# Altium footprint library SoporokoHost.PcbLib: 21 footprints (part 1 of 2)
Each footprint in its own frame and in the unit in brackets; x right, y up, seen from the top. Pads: shape width x height; smd on the part's side, far side on the other; paste and mask are expansions set on the pad; w line width, h text height; cw(c..) or ccw(c..) is an arc to the next point about the centre after c.
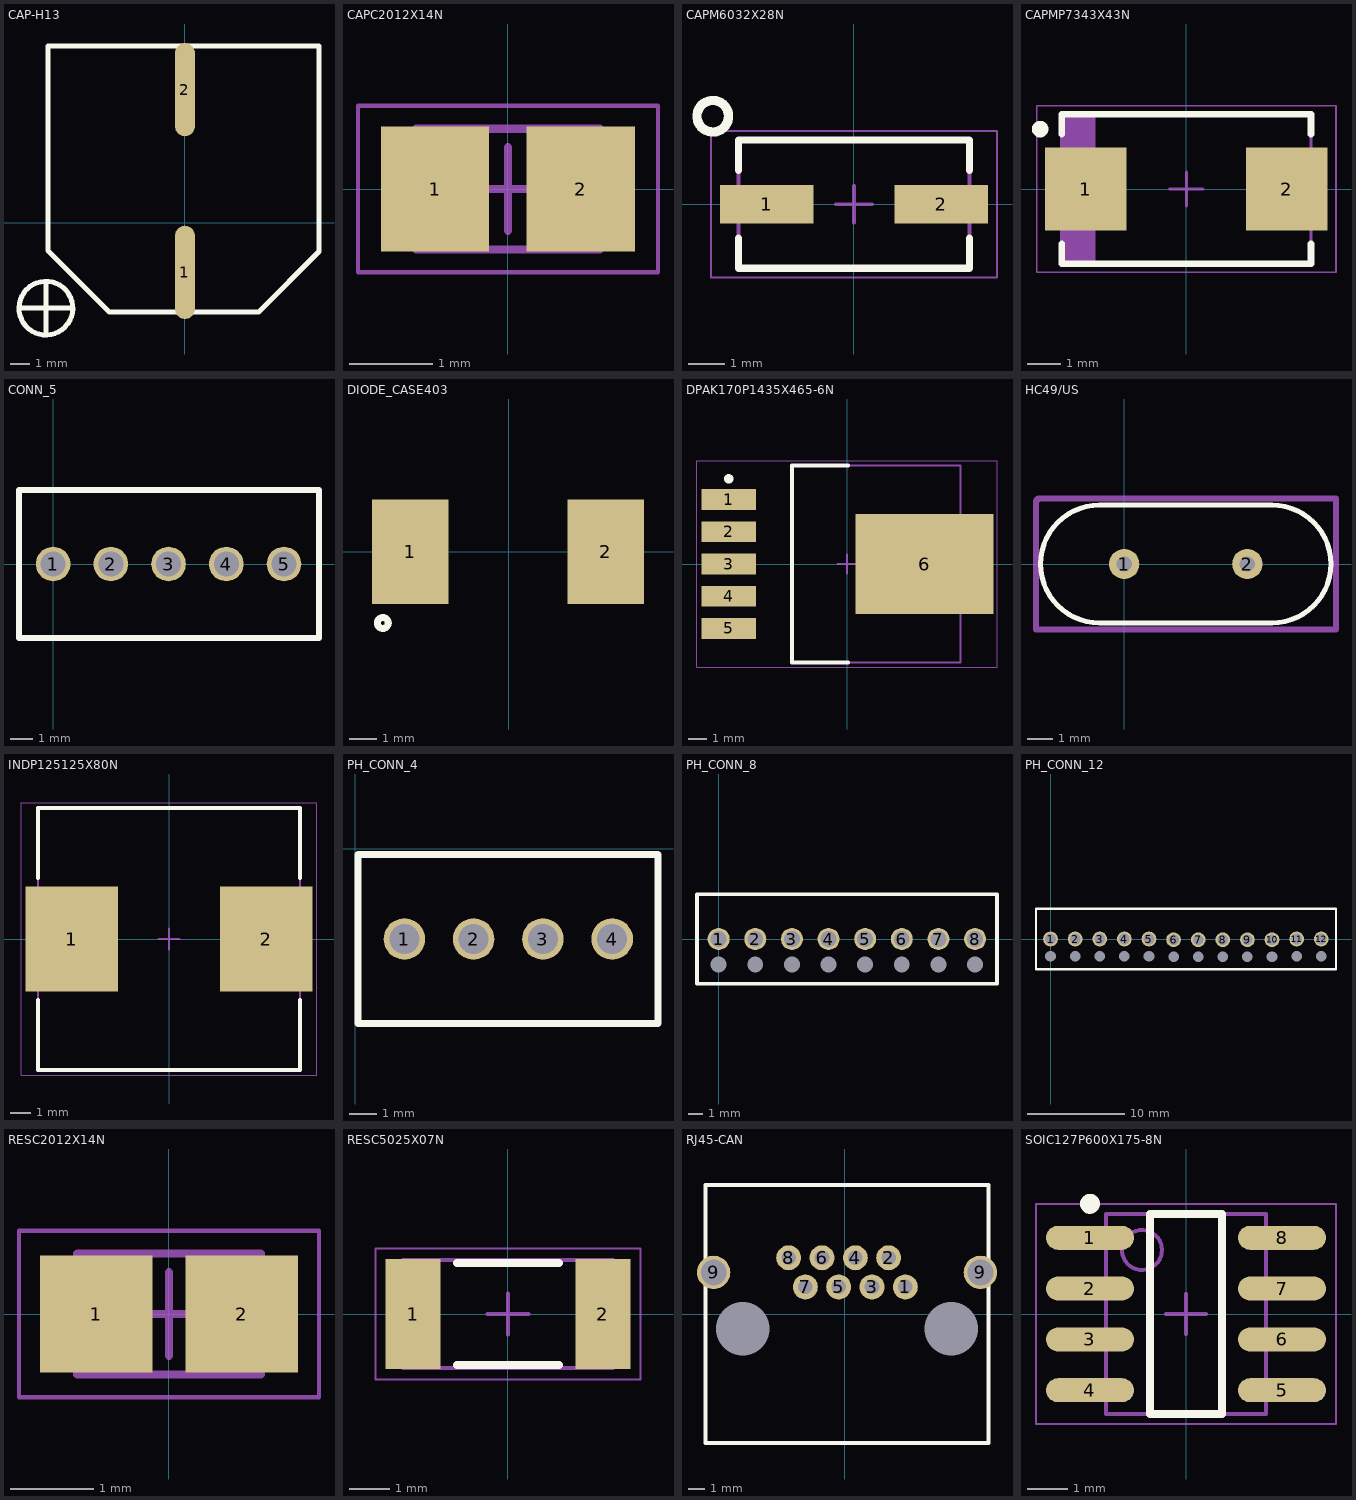
[diagram p0: the footprints below, top view; thin cyan lines are the x and y axes]

## CAP-H13 [mm]
pads (2):
  oval 1x4.7 smd: 1(0,-2.5) 2(0,6.7)
Top Overlay:
  lines w0.254: -8.3,-4.3 -5.7,-4.3 ; -7,-5.6 -7,-3 ; -5.647,-4.338 cw(c-7,-4.3) -5.647,-4.332 ; 6.725,8.9 -6.9,8.9 -6.9,-1.4 -3.8,-4.5 3.7,-4.5 6.75,-1.45 6.75,8.9

## CAPC2012X14N [mm] "Chip Capacitor, 2-Leads, Body 2.00x1.25mm, IPC Medium Density"
height 1.4
pads (2):
  rect 1.3x1.5 smd: 1(-0.875,0) 2(0.875,0)
Mechanical 13:
  lines w0.1: -1.1,-0.725 -1.1,0.725 1.1,0.725 1.1,-0.725 -1.1,-0.725
Mechanical 15:
  lines w0.05: -1.8,-1 -1.8,1 1.8,1 1.8,-1 -1.8,-1
  lines w0.1: -0.5,0 0.5,0 ; 0,-0.5 0,0.5
3D body: height 1.4, standoff 0, extent -0.6,-0.725 0.6,0.725
3D body: height 1.4, standoff 0, extent -1.1,-0.725 -0.6,0.725
3D body: height 1.4, standoff 0, extent 0.6,-0.725 1.1,0.725

## CAPM6032X28N [mm] "Molded Capacitor, 2-Leads, Body 6.00x3.20mm, IPC Medium Density"
height 2.8
pads (2):
  rect 2.55x1.05 smd: 1(-2.375,0) 2(2.375,0)
Top Overlay:
  circle w0.254: c-3.85,2.4 r0.43
  lines w0.2: -3.15,-0.925 -3.15,-1.75 3.15,-1.75 3.15,-0.925 ; -3.15,0.925 -3.15,1.75 3.15,1.75 3.15,0.925
Mechanical 13:
  lines w0.1: -3.15,-1.75 -3.15,1.75 3.15,1.75 3.15,-1.75 -3.15,-1.75
Mechanical 15:
  lines w0.05: -3.9,-2 -3.9,2 3.9,2 3.9,-2 -3.9,-2
  lines w0.1: -0.5,0 0.5,0 ; 0,-0.5 0,0.5
3D body: height 2.8, standoff 0, extent -3.15,-1.75 3.15,1.75

## CAPMP7343X43N [mm] "Molded Capacitor, 2-Leads, Body 7.30x4.30mm, IPC Medium Density"
height 4.3
pads (2):
  rect 2.45x2.5 smd: 1(-3.025,0) 2(3.025,0)
Top Overlay:
  circle w0.25: c-4.4,1.8 r0.125
  lines w0.2: -3.75,-1.65 -3.75,-2.25 3.75,-2.25 3.75,-1.65 ; -3.75,1.65 -3.75,2.25 3.75,2.25 3.75,1.65
Mechanical 13:
  rectangle: -3.75,-2.25 -2.741,2.25
  lines w0.1: -3.75,-2.25 -3.75,2.25 3.75,2.25 3.75,-2.25 -3.75,-2.25
Mechanical 15:
  lines w0.05: -4.5,-2.5 -4.5,2.5 4.5,2.5 4.5,-2.5 -4.5,-2.5
  lines w0.1: -0.5,0 0.5,0 ; 0,-0.5 0,0.5
3D body: height 4.3, standoff 0, extent -3.75,-2.25 3.75,2.25

## CONN_5 [mil]
pads (5):
  round 60 hole 43.31: 1(0,0) 2(100,0) 3(200,0) 4(300,0) 5(400,0)
Top Overlay:
  lines w10: -59.06,-127.95 -59.06,127.95 460.63,127.95 460.63,-127.95 -59.06,-127.95

## DIODE_CASE403 [mil]
height 94.88
pads (2):
  rect 110x150 smd: 1(-141.73,0) 2(139.25,0)
Top Overlay:
  circle w10: c-181.1,-102.36 r7.87

## DPAK170P1435X465-6N [mm] "D2-PAK, 6-Pads, Body 7.55x8.56mm (max), IPC Medium Density"
height 4.65
pads (6):
  rect 2.9x1.1 smd: 1(-6.25,3.4) 2(-6.25,1.7) 3(-6.25,0) 4(-6.25,-1.7) 5(-6.25,-3.4)
  rect 7.3x5.3 smd: 6(4.1,0)
Top Overlay:
  circle w0.25: c-6.25,4.5 r0.125
  lines w0.2: 0.05,-5.2 -2.9,-5.2 -2.9,5.2 0.05,5.2
Mechanical 13:
  lines w0.1: -2.9,-5.2 -2.9,5.2 5.99,5.2 5.99,-5.2 -2.9,-5.2
Mechanical 15:
  lines w0.05: -7.925,-5.45 -7.925,5.45 7.925,5.45 7.925,-5.45 -7.925,-5.45
  lines w0.1: -0.5,0 0.5,0 ; 0,-0.5 0,0.5
3D body: height 4.65, standoff 0.15, extent -2.9,-5.2 5.99,5.2

## HC49/US [mm]
pads (2):
  round 1.2 hole 0.6: 1(0,0) 2(4.88,0)
Top Overlay:
  lines w0.2: -0.985,-2.335 cw(c-0.985,0) -0.985,2.335 5.865,2.335 cw(c5.865,0) 5.865,-2.335 -0.985,-2.335
Mechanical 15:
  lines w0.254: -3.5,-2.6 8.4,-2.6 8.4,2.6 -3.4,2.6 -3.5,2.5 -3.5,-2.6

## INDP125125X80N [mm] "Precision Wire Wound Inductor, 2-Leads, Body 12.50x12.50mm, IPC Medium Density"
height 8
pads (2):
  rect 4.5x5.15 smd: 1(-4.75,0) 2(4.75,0)
Top Overlay:
  lines w0.2: -6.4,-2.975 -6.4,-6.4 6.4,-6.4 6.4,-2.975 ; -6.4,2.975 -6.4,6.4 6.4,6.4 6.4,2.975
Mechanical 13:
  lines w0.1: -6.4,-6.4 6.4,-6.4 6.4,6.4 -6.4,6.4 -6.4,-6.4
Mechanical 15:
  lines w0.05: -7.225,-6.65 7.225,-6.65 7.225,6.65 -7.225,6.65 -7.225,-6.65
  lines w0.1: -0.5,0 0.5,0 ; 0,-0.5 0,0.5
3D body: height 8, standoff 0, extent -6.4,-6.4 6.4,6.4

## PH_CONN_4 [mm]
pads (4):
  round 1.524 hole 1.1: 1(1.8,-3.3) 2(4.34,-3.3) 3(6.88,-3.3) 4(9.42,-3.3)
Top Overlay:
  lines w0.254: 0.1,-6.4 0.1,-0.2 11.1,-0.2 11.1,-6.4 0.1,-6.4

## PH_CONN_8 [mil]
pads (16):
  round 60 hole 43.31: 1(0,0) 2(100,0) 3(200,0) 4(300,0) 5(400,0) 6(500,0) 7(600,0) 8(700,0)
  round 0 hole 43.31: ""(0,-70) ""(100,-70) ""(200,-70) ""(300,-70) ""(400,-70) ""(500,-70) ""(600,-70) ""(700,-70)
Top Overlay:
  lines w10: 440.94,122.05 759.84,122.05 759.84,3.94 759.84,-122.05 456.69,-122.05 -59.06,-122.05 -59.06,122.05 460.63,122.05

## PH_CONN_12 [mil]
pads (24):
  round 0 hole 43.31: 0(0,-70) ""(100,-70) ""(200,-70) ""(300,-70) ""(400,-70) ""(500,-72.76) ""(600,-72.76) ""(700,-72.76) ""(800,-72.76) ""(900,-72.76) ""(1000,-70) ""(1100,-70)
  round 60 hole 43.31: 1(0,0) 2(100,0) 3(200,0) 4(300,0) 5(400,0) 6(500,-2.76) 7(600,-2.76) 8(700,-2.76) 9(800,-2.76) 10(900,-2.76) 11(1000,0) 12(1100,0)
Top Overlay:
  lines w10: -59.06,-122.05 -59.06,122.05 460.63,122.05 1160,122.05 1160,0 1160,-122.05 456.69,-122.05 -59.06,-122.05

## RESC2012X14N [mm] "Chip Resistor, 2-Leads, Body 2.00x1.25mm, IPC Medium Density"
height 1.4
pads (2):
  rect 1.35x1.4 smd: 1(-0.875,0) 2(0.875,0)
Mechanical 13:
  lines w0.1: -1.1,-0.725 1.1,-0.725 1.1,0.725 -1.1,0.725 -1.1,-0.725
Mechanical 15:
  lines w0.05: -1.8,-1 1.8,-1 1.8,1 -1.8,1 -1.8,-1
  lines w0.1: -0.5,0 0.5,0 ; 0,-0.5 0,0.5
3D body: height 1.4, standoff 0, extent 0.6,-0.725 1.1,0.725
3D body: height 1.4, standoff 0, extent -1.1,-0.725 -0.6,0.725
3D body: height 1.4, standoff 0, extent -0.6,-0.725 0.6,0.725

## RESC5025X07N [mm] "Chip Resistor, 2-Leads, Body 5.00x2.50mm, IPC Medium Density"
height 0.7
pads (2):
  rect 1.35x2.7 smd: 1(-2.325,0) 2(2.325,0)
Top Overlay:
  lines w0.2: -1.25,-1.25 1.25,-1.25 ; -1.25,1.25 1.25,1.25
Mechanical 13:
  lines w0.1: -2.575,-1.325 2.575,-1.325 2.575,1.325 -2.575,1.325 -2.575,-1.325
Mechanical 15:
  lines w0.05: -3.25,-1.6 3.25,-1.6 3.25,1.6 -3.25,1.6 -3.25,-1.6
  lines w0.1: -0.5,0 0.5,0 ; 0,-0.5 0,0.5
3D body: height 0.7, standoff 0, extent 1.975,-1.325 2.575,1.325
3D body: height 0.7, standoff 0, extent -2.575,-1.325 -1.975,1.325
3D body: height 0.7, standoff 0, extent -1.975,-1.325 1.975,1.325

## RJ45-CAN [mil]
height 550
pads (12):
  round 60 hole 35: 1(145,65) 2(105,135) 3(65,65) 4(25,135) 5(-15,65) 6(-55,135) 7(-95,65) 8(-135,135)
  round 80 hole 62: 9(-315,100) 9(325,100)
  round 0 hole 128: 10(-245,-35)
  round 0 hole 128 unplated: 10(255,-35)
Top Overlay:
  lines w10: -335,-310 -335,310 345,310 345,-310 -335,-310

## SOIC127P600X175-8N [mm] "SOIC, 8-Leads, Body 4.90x3.90mm, Pitch 1.27mm, IPC Medium Density"
height 1.75
pads (8):
  oval 2.2x0.6 smd: 1(-2.4,1.905) 2(-2.4,0.635) 3(-2.4,-0.635) 4(-2.4,-1.905) 5(2.4,-1.905) 6(2.4,-0.635) 7(2.4,0.635) 8(2.4,1.905)
Top Overlay:
  circle w0.25: c-2.4,2.755 r0.125
  lines w0.2: -0.9,-2.5 -0.9,2.5 0.9,2.5 0.9,-2.5 -0.9,-2.5
Mechanical 13:
  circle w0.1: c-1.1,1.6 r0.5
  lines w0.1: -2,-2.5 -2,2.5 2,2.5 2,-2.5 -2,-2.5
Mechanical 15:
  lines w0.05: -3.75,-2.75 -3.75,2.75 3.75,2.75 3.75,-2.75 -3.75,-2.75
  lines w0.1: -0.5,0 0.5,0 ; 0,-0.5 0,0.5
3D body: height 1.75, standoff 0.25, extent -2,-2.5 2,2.5